# EAGLE library part S20B-PUDSS-1 (library con-jst-pud)
JST connector, PUD series, 2.0mm spacing, crimp style, wire-to-board, 20 pin, side entry
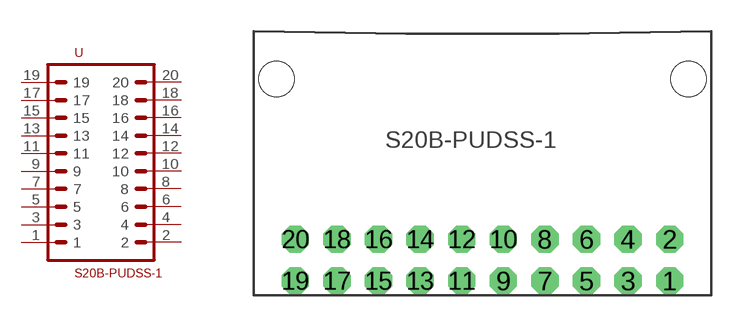
[diagram p1: symbol with the pads of PUD_20_PIN_SIDE_ENTRY; footprint PUD_20_PIN_SIDE_ENTRY]

Designator prefix -

## S20B-PUDSS-1 (DIGIKEY: 455-2491-ND; MF: JST; MPN: S20B-PUDSS-1)  [PUD_20_PIN_SIDE_ENTRY]
1  1
2  2
3  3
4  4
5  5
6  6
7  7
8  8
9  9
10  10
11  11
12  12
13  13
14  14
15  15
16  16
17  17
18  18
19  19
20  20

## Footprint PUD_20_PIN_SIDE_ENTRY (pad centres in mm)
drill 0.8 octagon: 1 9,-6; 2 9,-4; 3 7,-6; 4 7,-4; 5 5,-6; 6 5,-4; 7 3,-6; 8 3,-4; 9 1,-6; 10 1,-4; 11 -1,-6; 12 -1,-4; 13 -3,-6; 14 -3,-4; 15 -5,-6; 16 -5,-4; 17 -7,-6; 18 -7,-4; 19 -9,-6; 20 -9,-4
hole 1.7 at 9.9,3.7
hole 1.7 at -9.9,3.7